# Altium integrated library RJE091884511C.IntLib: 1 symbol
Pins are listed as number, name and electrical type; pins without a type are passive.

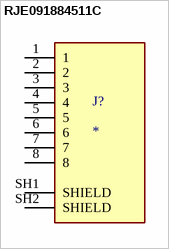
[diagram p0: symbol RJE091884511C]

## RJE091884511C
designator J?
Jack Modular Connector 8p8c (RJ45, Ethernet) 90Â° Angle (Right) Shielded Cat3; MF: Amphenol ICC (Commercial Products); MP: RJE091884511C; SnapEDA_Link: https://www.snapeda.com/parts/RJE091884511C/Amphenol/view-part/?ref=snap; Package: None; Value: *; Check_prices: https://www.snapeda.com/parts/RJE091884511C/Amphenol/view-part/?ref=eda
footprint AMPHENOL_RJE091884511C
pins: 1, 2, 3, 4, 5, 6, 7, 8, SH1 SHIELD, SH2 SHIELD